# Altium schematic symbol library EEUFC1E101S.SchLib: 1 symbol
Pins are listed as number, name and electrical type; pins without a type are passive.

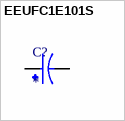
[diagram p0: symbol EEUFC1E101S]

## EEUFC1E101S
designator C?
FC-A; MP: EEUFC1E101S; Price: None; Value: *; Package: None; Availability: Unavailable
footprint CAPPRD250W50D630H1120
pins: N, P